# EAGLE library part DSPIC33FJ06GS202A (library MCUs)
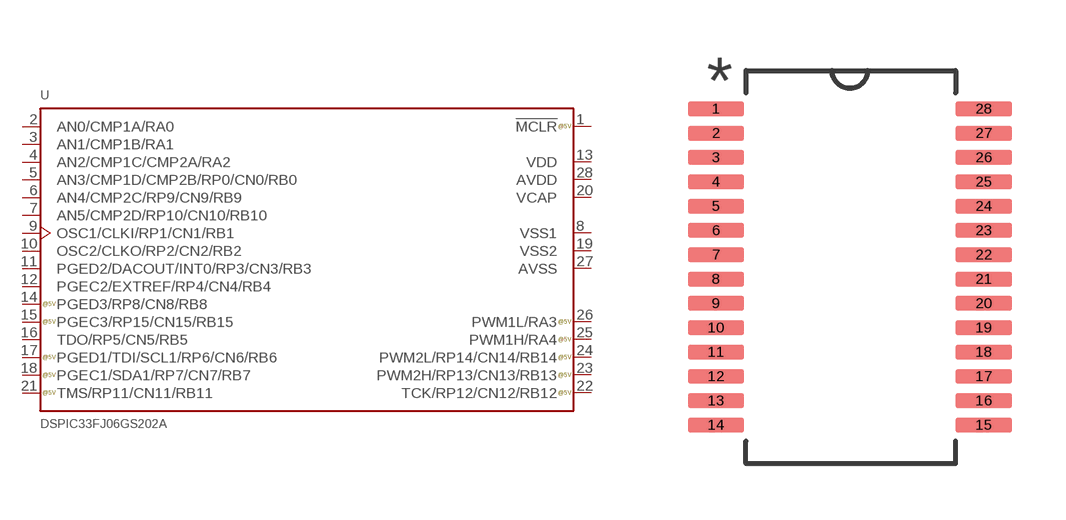
[diagram p2: symbol with the pads of SSOP-28; footprint SSOP-28]

Designator prefix U

## DSPIC33FJ06GS202A-X/SS  [SSOP-28]
1  !MCLR
2  AN0/CMP1A/RA0
3  AN1/CMP1B/RA1
4  AN2/CMP1C/CMP2A/RA2
5  AN3/CMP1D/CMP2B/RP0/CN0/RB0
6  AN4/CMP2C/RP9/CN9/RB9
7  AN5/CMP2D/RP10/CN10/RB10
8  VSS1
9  OSC1/CLKI/RP1/CN1/RB1
10  OSC2/CLKO/RP2/CN2/RB2
11  PGED2/DACOUT/INT0/RP3/CN3/RB3
12  PGEC2/EXTREF/RP4/CN4/RB4
13  VDD
14  PGED3/RP8/CN8/RB8
15  PGEC3/RP15/CN15/RB15
16  TDO/RP5/CN5/RB5
17  PGED1/TDI/SCL1/RP6/CN6/RB6
18  PGEC1/SDA1/RP7/CN7/RB7
19  VSS2
20  VCAP
21  TMS/RP11/CN11/RB11
22  TCK/RP12/CN12/RB12
23  PWM2H/RP13/CN13/RB13
24  PWM2L/RP14/CN14/RB14
25  PWM1H/RA4
26  PWM1L/RA3
27  AVSS
28  AVDD

## Footprint SSOP-28 (pad centres in mm)
smd 1.5 x 0.4: 1 -3.6,4.225; 2 -3.6,3.575; 3 -3.6,2.925; 4 -3.6,2.275; 5 -3.6,1.625; 6 -3.6,0.975; 7 -3.6,0.325; 8 -3.6,-0.325; 9 -3.6,-0.975; 10 -3.6,-1.625; 11 -3.6,-2.275; 12 -3.6,-2.925; 13 -3.6,-3.575; 14 -3.6,-4.225; 15 3.55,-4.225; 16 3.55,-3.575; 17 3.55,-2.925; 18 3.55,-2.275; 19 3.55,-1.625; 20 3.55,-0.975; 21 3.55,-0.325; 22 3.55,0.325; 23 3.55,0.975; 24 3.55,1.625; 25 3.55,2.275; 26 3.55,2.925; 27 3.55,3.575; 28 3.55,4.225